# EAGLE library part PIC16LF1823 (library components)
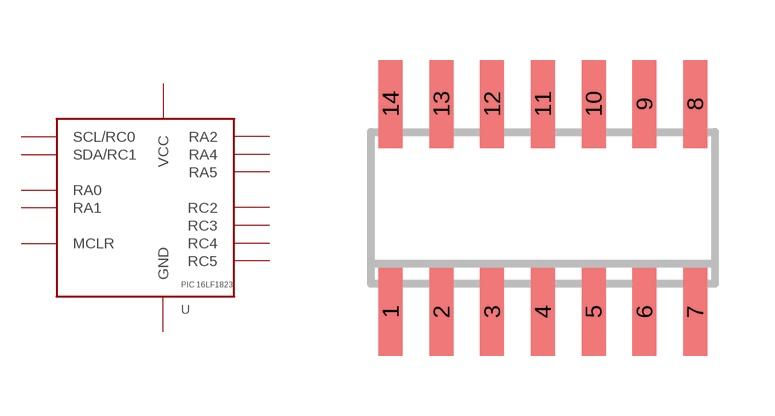
[diagram p23: symbol with the pads of SO14; footprint SO14]

Designator prefix U

## PIC16LF1823 (DESCRIPTION: PIC 16lf1823 microcontroller; DIGIKEY-PN: PIC16LF1823-I/SL-ND)  [SO14]
1  VCC  pwr
2  RA5
3  RA4
4  MCLR
5  RC5
6  RC4
7  RC3
8  RC2
9  SDA/RC1
10  SCL/RC0
11  RA2
12  RA1
13  RA0
14  GND  pwr

## Footprint SO14 (pad centres in mm)
SMALL OUTLINE INTEGRATED CIRCUIT body 3.9 mm/JEDEC MS-012AC
smd 0.6 x 2.2: 1 -3.81,-2.6; 2 -2.54,-2.6; 3 -1.27,-2.6; 4 0,-2.6; 5 1.27,-2.6; 6 2.54,-2.6; 7 3.81,-2.6; 8 3.81,2.6; 9 2.54,2.6; 10 1.27,2.6; 11 0,2.6; 12 -1.27,2.6; 13 -2.54,2.6; 14 -3.81,2.6